# EAGLE library part FTR (library Relais F1CA024V - 2 x Wechsler)
Name des Bauteiles: FTR-F1CA024V Daten: Relais, 2 Wechs. für 250VAC/5A Artikelnummer: #030082 Datenblatt: www.alldatasheet,com
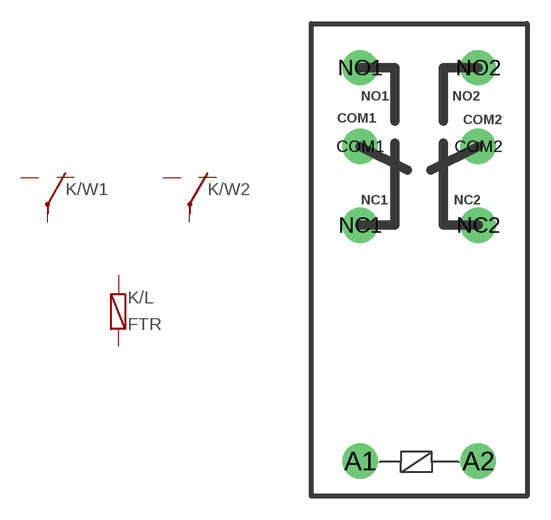
[diagram p0: symbol with the pads of F1CA024V; footprint F1CA024V]

Designator prefix K; gates /W1=1_WECHSLER /W2=2_WECHSLER /L=SPULE

## FTRF1CA024V  [F1CA024V]
A1  /L:A1
A2  /L:A2
COM1  /W1:COM1  pas
COM2  /W2:COM2  pas
NC1  /W1:NC1  pas
NC2  /W2:NC2  pas
NO1  /W1:NO1  pas
NO2  /W2:NO2  pas

## Footprint F1CA024V (pad centres in mm)
drill 1.5: A1 0,0; A2 7.5,0; COM1 0,20; COM2 7.5,20; NC1 0,15; NC2 7.5,15; NO1 0,25; NO2 7.5,25